# Altium schematic symbol library 9-Comp+TEST 综合运用.SchLib: 69 symbols
Pins are listed as number, name and electrical type; pins without a type are passive.

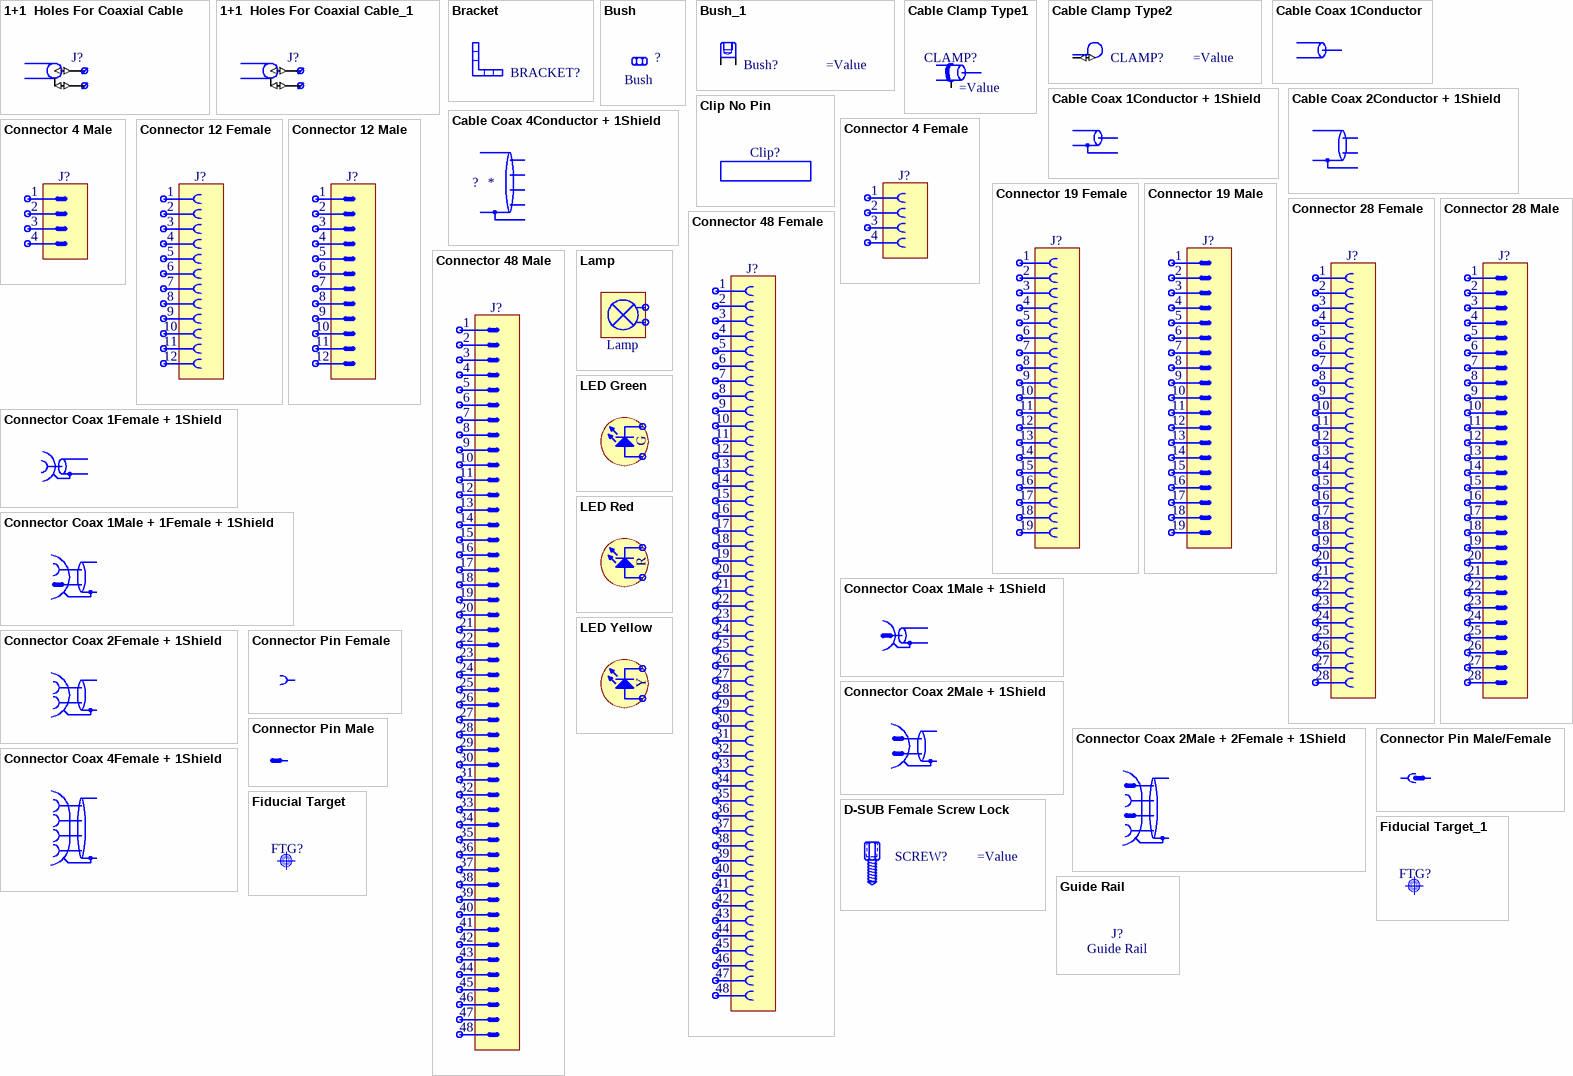
[diagram p0: symbols 1+1  Holes For Coaxial Cable to LED Yellow]

## 1+1  Holes For Coaxial Cable
designator J?
1+1  Holes For Coaxial Cable
pins: 1 (io), 2 (io)

## 1+1  Holes For Coaxial Cable_1
designator J?
1+1  Holes For Coaxial Cable
pins: 1 (io), 2 (io)

## Bracket
designator BRACKET?  (value not drawn)

## Bush
designator ?  (graphical)

## Bush_1
designator Bush?
Bush
pins: 1 (io), 1 (io)

## Cable Clamp Type1
designator CLAMP?
EMC Shield Cable Clamp
pins: 1 (io)

## Cable Clamp Type2
designator CLAMP?
Cable Clamp
pins: 1 (io)

## Cable Coax 1Conductor
designator ?  (value not drawn)  (graphical)
Cable Coax 1Conductor

## Cable Coax 1Conductor + 1Shield
designator ?  (value not drawn)  (graphical)
Cable Coax 1Conductor + 1Shield

## Cable Coax 2Conductor + 1Shield
designator ?  (value not drawn)  (graphical)
Cable Coax 2Conductor + 1Shield

## Cable Coax 4Conductor + 1Shield
designator ?  (graphical)
Cable Coax 4Conductor + 1Shield

## Clip No Pin
designator Clip?
Clip

## Connector 4 Female
designator J?  (graphical)
Connector 4 Female
1 alternate drawing of the same symbol

## Connector 4 Male
designator J?  (graphical)
Connector 4 Male
1 alternate drawing of the same symbol

## Connector 12 Female
designator J?  (graphical)
Connector 12 Female
1 alternate drawing of the same symbol

## Connector 12 Male
designator J?
Connector 12 Male
1 alternate drawing of the same symbol

## Connector 19 Female
designator J?  (graphical)
Connector 19 Female
1 alternate drawing of the same symbol

## Connector 19 Male
designator J?  (graphical)
Connector 19 Male
1 alternate drawing of the same symbol

## Connector 28 Female
designator J?  (graphical)
Connector 28 Female
1 alternate drawing of the same symbol

## Connector 28 Male
designator J?  (graphical)
Connector 28 Male
1 alternate drawing of the same symbol

## Connector 48 Female
designator J?  (graphical)
Connector 48 Female
1 alternate drawing of the same symbol
text: 29; 30; 31; 32; 33; 34; 35; 36; 37; 38; 39; 40; 41; 42; 43; 44; 45; 46; 47; 48

## Connector 48 Male
designator J?  (graphical)
Connector 48 Male
1 alternate drawing of the same symbol
text: 29; 30; 31; 32; 33; 34; 35; 36; 37; 38; 39; 40; 41; 42; 43; 44; 45; 46; 47; 48

## Connector Coax 1Female + 1Shield
designator ?  (value not drawn)  (graphical)
Connector Coax 1Female + 1Shield

## Connector Coax 1Male + 1Female + 1Shield
designator ?  (value not drawn)  (graphical)
Connector Coax 1Male + 1Female + 1Shield

## Connector Coax 1Male + 1Shield
designator ?  (value not drawn)  (graphical)
Coaxial Connecteur 1 Conductor + 1 Shield

## Connector Coax 2Female + 1Shield
designator ?  (value not drawn)  (graphical)
Connector Coax 2Female + 1Shield

## Connector Coax 2Male + 1Shield
designator ?  (value not drawn)  (graphical)
Connector Coax 2Male + 1Shield

## Connector Coax 2Male + 2Female + 1Shield
designator ?  (value not drawn)  (graphical)
Connector Coax 2Male + 2Female + 1Shield

## Connector Coax 4Female + 1Shield
designator ?  (value not drawn)  (graphical)
Connector Coax 4Female + 1Shield

## Connector Pin Female
designator ?  (value not drawn)  (graphical)
Connector Pin Female

## Connector Pin Male
designator ?  (value not drawn)  (graphical)
Connector Pin Male

## Connector Pin Male/Female
designator ?  (value not drawn)  (graphical)
Connector Pin Male/Female

## D-SUB Female Screw Lock
designator SCREW?
D-SUB Female Screw Lock

## Fiducial Target
designator FTG?, comment Use only in PCB  (value not drawn)
Fiducial Target

## Fiducial Target_1
designator FTG?, comment Use only in PCB  (value not drawn)
Fiducial Target

## Guide Rail
designator J?

## Lamp
designator Lamp  (value not drawn)  (graphical)
Lamp

## LED Green
designator ?  (value not drawn)  (graphical)
LED Green
text: G

## LED Red
designator ?  (value not drawn)  (graphical)
LED Red
text: R

## LED Yellow
designator ?  (value not drawn)  (graphical)
LED Yellow
text: Y

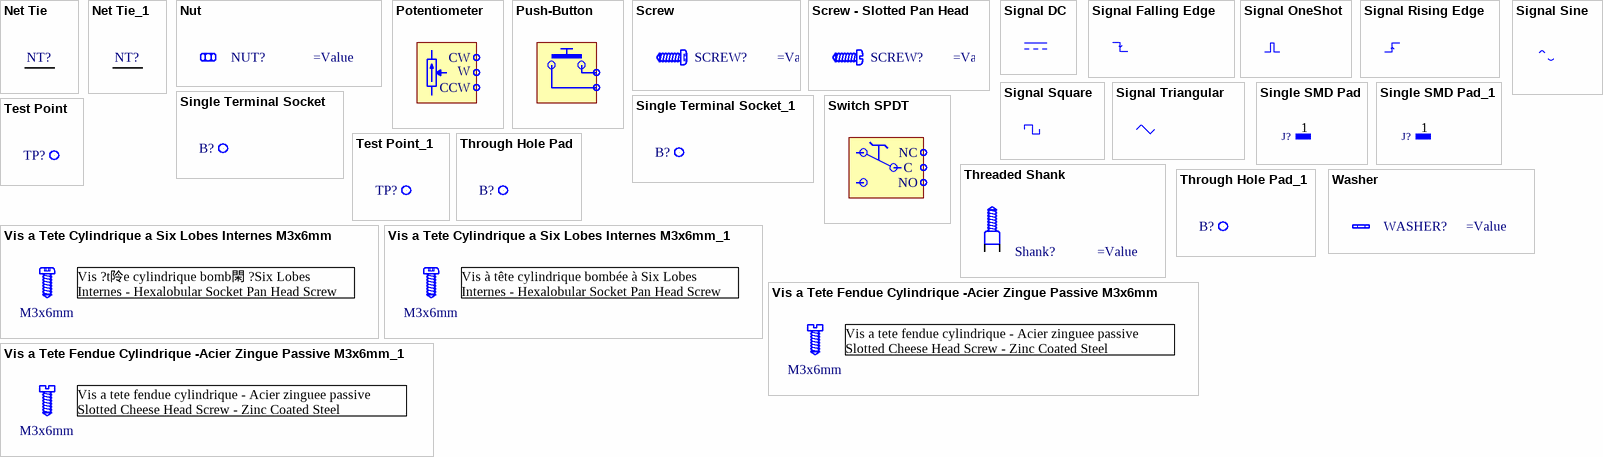
[diagram p1: symbols Net Tie to Washer]

## Net Tie
designator NT?  (net tie, no BOM)
Net Tie
pins: 1 (io), 2 (io)

## Net Tie_1
designator NT?  (net tie, no BOM)
Net Tie
pins: 1 (io), 2 (io)

## Nut
designator NUT?
Nut

## Potentiometer
designator ?  (value not drawn)  (graphical)
Trimming Potentiometer
text: CW; W; CCW

## Push-Button
designator ?  (value not drawn)  (graphical)
Push-Button

## Screw
designator SCREW?
Screw

## Screw - Slotted Pan Head
designator SCREW?
Slotted Pan Head Screw

## Signal DC
designator ?  (value not drawn)  (graphical)
Direct Current

## Signal Falling Edge
designator ?  (value not drawn)  (graphical)
Falling Edge

## Signal OneShot
designator ?  (value not drawn)  (graphical)
OneShot Signal

## Signal Rising Edge
designator ?  (value not drawn)  (graphical)
Rising Edge

## Signal Sine
designator ?  (value not drawn)  (graphical)
Sine Signal

## Signal Square
designator ?  (value not drawn)  (graphical)
Square Signal

## Signal Triangular
designator ?  (value not drawn)  (graphical)
Square Signal

## Single SMD Pad
designator J?
Single SMD Pad
pins: 1 (io)

## Single SMD Pad_1
designator J?
Single SMD Pad
pins: 1 (io)

## Single Terminal Socket
designator B?
Single Terminal Socket
pins: 1 (io)

## Single Terminal Socket_1
designator B?
Single Terminal Socket
pins: 1 (io)

## Switch SPDT
designator ?  (value not drawn)  (graphical)
Switch SPDT
text: NC; C; NO

## Test Point
designator TP?
Test Point
pins: 1 (io)

## Test Point_1
designator TP?
Test Point
pins: 1 (io)

## Threaded Shank
designator Shank?
Threaded Shank
pins: 1 (io), 1 (io)

## Through Hole Pad
designator B?
Through Hole Pad
pins: 1 (io)

## Through Hole Pad_1
designator B?
Through Hole Pad
pins: 1 (io)

## Vis a Tete Cylindrique a Six Lobes Internes M3x6mm
designator ?  (value not drawn)  (mechanical)
Vis a Tete Cylindrique a Six Lobes Internes
text: Vis ?t阾e cylindrique bomb閑 ?Six Lobes Internes - Hexalobular Socket Pan Head Screw; M3x6mm

## Vis a Tete Cylindrique a Six Lobes Internes M3x6mm_1
designator ?  (value not drawn)  (mechanical)
Vis a Tete Cylindrique a Six Lobes Internes
text: Vis à tête cylindrique bombée à Six Lobes Internes - Hexalobular Socket Pan Head Screw; M3x6mm

## Vis a Tete Fendue Cylindrique -Acier Zingue Passive M3x6mm
designator ?  (value not drawn)  (mechanical)
Vis a Tete Fendue Cylindrique -Acier Zingue M3x6mm
text: Vis a tete fendue cylindrique - Acier zinguee passive / Slotted Cheese Head Screw - Zinc Coated Steel PASSIVATED; M3x6mm

## Vis a Tete Fendue Cylindrique -Acier Zingue Passive M3x6mm_1
designator ?  (value not drawn)  (mechanical)
Vis a Tete Fendue Cylindrique -Acier Zingue M3x6mm
text: Vis a tete fendue cylindrique - Acier zinguee passive / Slotted Cheese Head Screw - Zinc Coated Steel PASSIVATED; M3x6mm

## Washer
designator WASHER?
Washer